# Altium footprint library Connectors.PcbLib: 8 footprints
Each footprint in its own frame and in the unit in brackets; x right, y up, seen from the top. Pads: shape width x height; smd on the part's side, far side on the other; paste and mask are expansions set on the pad; w line width, h text height; cw(c..) or ccw(c..) is an arc to the next point about the centre after c.
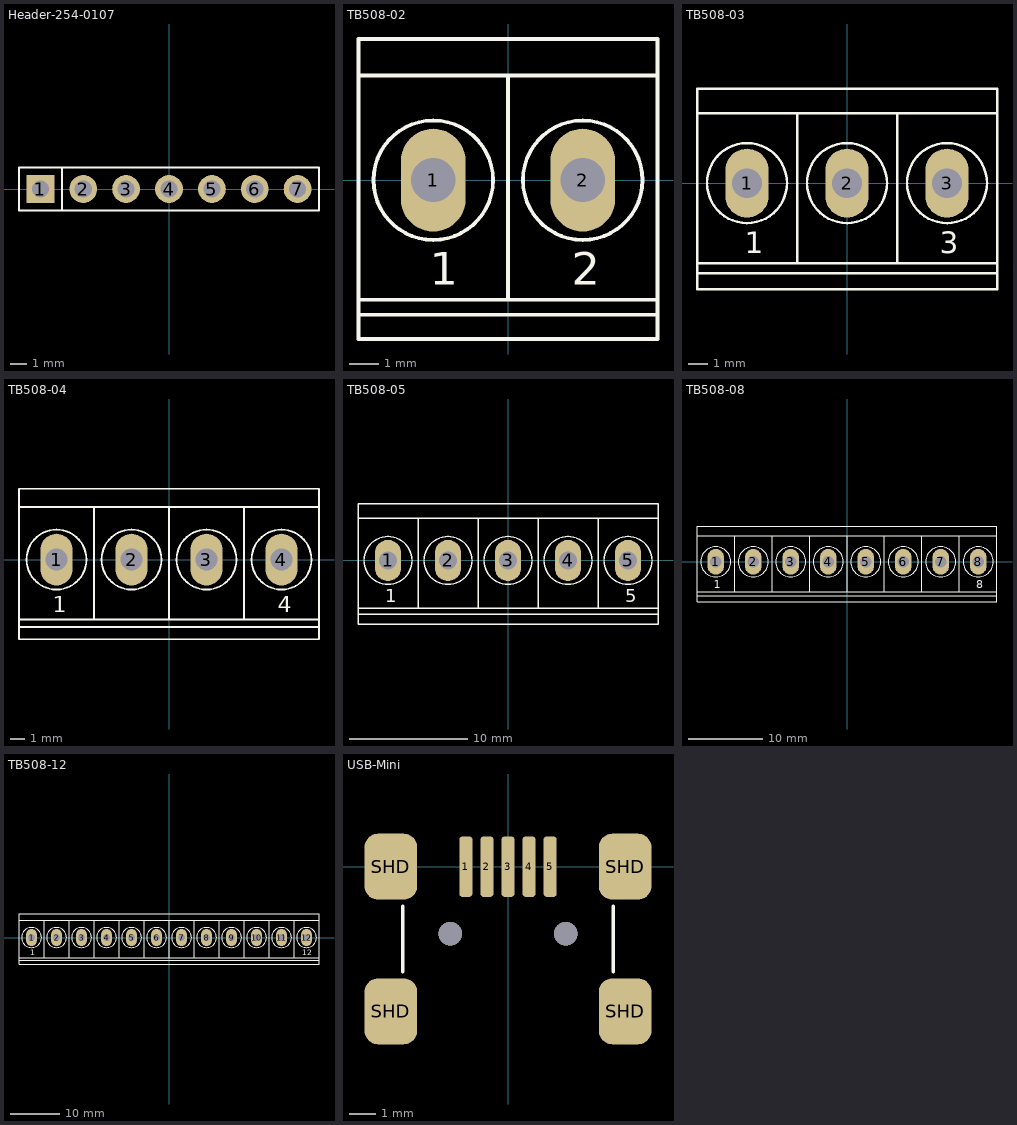
[diagram p0: the footprints below, top view; thin cyan lines are the x and y axes]

## Header-254-0107 [mil] "Rectangular header - Male pines 1x7 - 2.54mm pitch"
pads (7):
  rect 65x65 / inner round 60 / far side rect 65x65 hole 40: 1(-300,0)
  round 65 / inner round 60 / far side round 65 hole 40: 2(-200,0) 3(-100,0) 4(0,0) 5(100,0) 6(200,0) 7(300,0)
Top Overlay:
  lines w5: -250,-50 -250,50 ; -350,-50 -350,50 350,50 350,-50 -350,-50
3D body "Header-M-254-0107.STEP": height 350, standoff -120, extent -350,-50 350,50

## TB508-02 [mm] "Vertical terminal block 0.2 inch (5.08mm) pitch"
pads (2):
  oval 2.2x3.5 hole 1.5: 1(-2.54,0) 2(2.54,0)
Top Overlay:
  circle w0.127: c-2.54,0 r2.032
  circle w0.127: c2.54,0 r2.032
  lines w0.127: -5.08,-4.572 5.08,-4.572 5.08,3.556 -5.08,3.556 ; -5.08,-4.064 5.08,-4.064 ; 0,-4.064 0,3.556 ; -5.08,-5.4 -5.08,4.8 5.08,4.8 5.08,-5.4 -5.08,-5.4
  text "2" at 2.159,-3.556 h1.1
  text "1" at -2.667,-3.556 h1.1
3D body "TB508-02.stp": height 15, standoff -3.5, extent -5.67,-4.75 5.06,4.75

## TB508-03 [mm] "Vertical terminal block 0.2 inch (5.08mm) pitch"
pads (3):
  oval 2.2x3.5 hole 1.5: 1(-5.08,0) 2(0,0) 3(5.08,0)
Top Overlay:
  circle w0.127: c5.08,0 r2.032
  circle w0.127: c0,0 r2.032
  circle w0.127: c-5.08,0 r2.032
  lines w0.127: -7.62,-4.572 7.62,-4.572 7.62,-4.064 -7.62,-4.064 ; -7.62,3.556 7.62,3.556 ; -2.54,-4.064 -2.54,3.556 ; 2.54,-4.064 2.54,3.556 ; -7.62,-5.4 7.62,-5.4 7.62,4.8 -7.62,4.8 -7.62,-5.4
  text "1" at -5.207,-3.556 h1.1
  text "3" at 4.699,-3.556 h1.1
3D body "TB508-03.stp": height 15, standoff -3.5, extent -8.21,-4.7 7.6,4.8

## TB508-04 [mm] "Vertical terminal block 0.2 inch (5.08mm) pitch"
pads (4):
  oval 2.2x3.5 hole 1.5: 1(-7.62,0) 2(-2.54,0) 3(2.54,0) 4(7.62,0)
Top Overlay:
  circle w0.127: c-2.54,0 r2.032
  circle w0.127: c2.54,0 r2.032
  circle w0.127: c7.62,0 r2.032
  circle w0.127: c-7.62,0 r2.032
  lines w0.127: -10.16,-4.572 -5.08,-4.572 10.16,-4.572 ; -10.16,-4.064 -5.08,-4.064 ; -10.16,3.556 -5.08,3.556 ; -5.08,-5.4 10.16,-5.4 10.16,-3.81 10.16,4.8 -5.08,4.8 -10.16,4.8 -10.16,2.54 -10.16,-5.4 -4.572,-5.4 ; 0,-4.064 0,3.556 ; 5.08,-4.064 5.08,3.556 ; -5.08,-4.064 10.16,-4.064 10.16,3.556 -5.08,3.556 ; -5.08,-4.064 -5.08,3.556
  text "4" at 7.366,-3.556 h1.1
  text "1" at -7.874,-3.556 h1.1
3D body "TB508-04.stp": height 15.03, standoff -3.47, extent -10.699,-4.674 10.191,4.826

## TB508-05 [mm] "Vertical terminal block 0.2 inch (5.08mm) pitch"
pads (5):
  oval 2.2x3.5 hole 1.5: 1(-10.16,0) 2(-5.08,0) 3(0,0) 4(5.08,0) 5(10.16,0)
Top Overlay:
  circle w0.127: c-5.08,0 r2.032
  circle w0.127: c0,0 r2.032
  circle w0.127: c5.08,0 r2.032
  circle w0.127: c-10.16,0 r2.032
  circle w0.127: c10.16,0 r2.032
  lines w0.127: -12.7,-4.572 -7.62,-4.572 7.62,-4.572 ; -12.7,-4.064 -7.62,-4.064 ; -12.7,3.556 -7.62,3.556 ; -7.62,-5.4 7.62,-5.4 ; -7.112,-5.4 -12.7,-5.4 -12.7,2.54 -12.7,4.8 -7.62,4.8 7.62,4.8 12.7,4.8 12.7,-3.81 12.7,-5.4 4.064,-5.4 ; -2.54,-4.064 -2.54,3.556 ; 2.54,-4.064 2.54,3.556 ; 6.604,-4.572 12.7,-4.572 ; 6.858,-4.064 12.7,-4.064 ; 7.112,3.556 12.7,3.556 ; -7.62,-4.064 7.62,-4.064 7.62,3.556 -7.62,3.556 ; -7.62,-4.064 -7.62,3.556
  text "5" at 9.906,-3.556 h1.1
  text "1" at -10.414,-3.556 h1.1
3D body "TB508-03.stp": height 15.12, standoff -3.38, extent -3.104,-4.776 12.706,4.724
3D body "TB508-02.stp": height 15.11, standoff -3.39, extent -13.245,-4.75 -2.515,4.75

## TB508-08 [mm] "Vertical terminal block 0.2 inch (5.08mm) pitch"
pads (8):
  oval 2.2x3.5 hole 1.5: 1(-17.78,0) 2(-12.7,0) 3(-7.62,0) 4(-2.54,0) 5(2.54,0) 6(7.62,0) 7(12.7,0) 8(17.78,0)
Top Overlay:
  circle w0.127: c-17.78,0 r2.032
  circle w0.127: c-2.54,0 r2.032
  circle w0.127: c-7.62,0 r2.032
  circle w0.127: c-12.7,0 r2.032
  circle w0.127: c2.54,0 r2.032
  circle w0.127: c17.78,0 r2.032
  circle w0.127: c12.7,0 r2.032
  circle w0.127: c7.62,0 r2.032
  lines w0.127: -20.32,-4.572 -15.24,-4.572 0,-4.572 5.08,-4.572 20.32,-4.572 ; -20.32,-4.064 -15.24,-4.064 ; -20.32,3.556 -15.24,3.556 ; -15.24,-5.4 0,-5.4 5.588,-5.4 ; -14.732,-5.4 -20.32,-5.4 -20.32,2.54 -20.32,4.8 -15.24,4.8 0,4.8 5.08,4.8 20.32,4.8 20.32,-3.81 20.32,-5.4 5.08,-5.4 ; -10.16,-4.064 -10.16,3.556 ; -5.08,-4.064 -5.08,3.556 ; 10.16,-4.064 10.16,3.556 ; 15.24,-4.064 15.24,3.556 ; -15.24,-4.064 -15.24,3.556 ; -15.24,-4.064 0,-4.064 ; -15.24,3.556 0,3.556 ; 0,-4.064 0,3.556 ; 0,-4.064 5.08,-4.064 ; 0,3.556 5.08,3.556 ; 5.08,-4.064 20.32,-4.064 20.32,3.556 5.08,3.556 ; 5.08,-4.064 5.08,3.556
  text "1" at -18.034,-3.556 h1.1
  text "8" at 17.526,-3.556 h1.1
3D body "TB508-04.stp": height 15.03, standoff -3.47, extent -20.859,-4.674 0.031,4.826
3D body "TB508-04.stp": height 15.03, standoff -3.47, extent -0.539,-4.674 20.351,4.826

## TB508-12 [mm] "Vertical terminal block 0.2 inch (5.08mm) pitch"
pads (12):
  oval 2.2x3.5 hole 1.5: 1(-27.94,0) 2(-22.86,0) 3(-17.78,0) 4(-12.7,0) 5(-7.62,0) 6(-2.54,0) 7(2.54,0) 8(7.62,0) 9(12.7,0) 10(17.78,0) 11(22.86,0) 12(27.94,0)
Top Overlay:
  circle w0.127: c-2.54,0 r2.032
  circle w0.127: c2.54,0 r2.032
  circle w0.127: c7.62,0 r2.032
  circle w0.127: c-7.62,0 r2.032
  circle w0.127: c-22.86,0 r2.032
  circle w0.127: c-17.78,0 r2.032
  circle w0.127: c-12.7,0 r2.032
  circle w0.127: c-27.94,0 r2.032
  circle w0.127: c17.78,0 r2.032
  circle w0.127: c22.86,0 r2.032
  circle w0.127: c27.94,0 r2.032
  circle w0.127: c12.7,0 r2.032
  lines w0.127: -30.48,-4.572 -25.4,-4.572 -10.16,-4.572 -5.08,-4.572 10.16,-4.572 15.24,-4.572 30.48,-4.572 ; -30.48,-4.064 -25.4,-4.064 ; -30.48,3.556 -25.4,3.556 ; -25.4,-5.4 -10.16,-5.4 -4.572,-5.4 ; -24.892,-5.4 -30.48,-5.4 -30.48,2.54 -30.48,4.8 -25.4,4.8 -10.16,4.8 -5.08,4.8 10.16,4.8 15.24,4.8 30.48,4.8 30.48,-3.81 30.48,-5.4 15.24,-5.4 ; -20.32,-4.064 -20.32,3.556 ; -15.24,-4.064 -15.24,3.556 ; -5.08,-5.4 10.16,-5.4 15.748,-5.4 ; 0,-4.064 0,3.556 ; 5.08,-4.064 5.08,3.556 ; 20.32,-4.064 20.32,3.556 ; 25.4,-4.064 25.4,3.556 ; -25.4,-4.064 -10.16,-4.064 ; -25.4,-4.064 -25.4,3.556 ; -25.4,3.556 -10.16,3.556 ; -10.16,-4.064 -5.08,-4.064 ; -10.16,-4.064 -10.16,3.556 ; -10.16,3.556 -5.08,3.556 ; -5.08,-4.064 -5.08,3.556 ; -5.08,-4.064 10.16,-4.064 ; -5.08,3.556 10.16,3.556 ; 10.16,-4.064 10.16,3.556 ; 10.16,-4.064 15.24,-4.064 ; 10.16,-4.064 10.16,3.556 ; 10.16,3.556 15.24,3.556 ; 15.24,-4.064 15.24,3.556 ; 15.24,-4.064 30.48,-4.064 30.48,3.556 15.24,3.556
  text "1" at -28.194,-3.556 h1.1
  text "12" at 27.051,-3.556 h1.1
3D body "TB508-04.stp": height 15.03, standoff -3.47, extent -10.699,-4.674 10.191,4.826
3D body "TB508-04.stp": height 15.03, standoff -3.47, extent -31.019,-4.674 -10.129,4.826
3D body "TB508-04.stp": height 15.03, standoff -3.47, extent 9.621,-4.674 30.511,4.826

## USB-Mini [mm] "CONN RCPT USB2.0 MINI B SMD R/A"
pads (9):
  rrect50% 0.5x2.3 smd: 1(-1.6,0) 2(-0.8,0) 3(0,0) 4(0.8,0) 5(1.6,0)
  rrect50% 2x2.5 smd: SHD(-4.45,-5.5) SHD(-4.45,0) SHD(4.45,-5.5) SHD(4.45,0)
via -2.2,-2.55 diameter 0.9 hole 0.9
via 2.2,-2.55 diameter 0.9 hole 0.9
Top Overlay:
  lines w0.127: -4,-4 -4,-1.5 ; 4,-4 4,-1.5
3D body "USB-B-Mini.stp": height 3.93, standoff -1, extent -5.15,-8.45 4.75,0.8